# Altium footprint library MDBU014A.PcbLib: 52 footprints (part 2 of 4)
Each footprint in its own frame and in the unit in brackets; x right, y up, seen from the top. Pads: shape width x height; smd on the part's side, far side on the other; paste and mask are expansions set on the pad; w line width, h text height; cw(c..) or ccw(c..) is an arc to the next point about the centre after c.
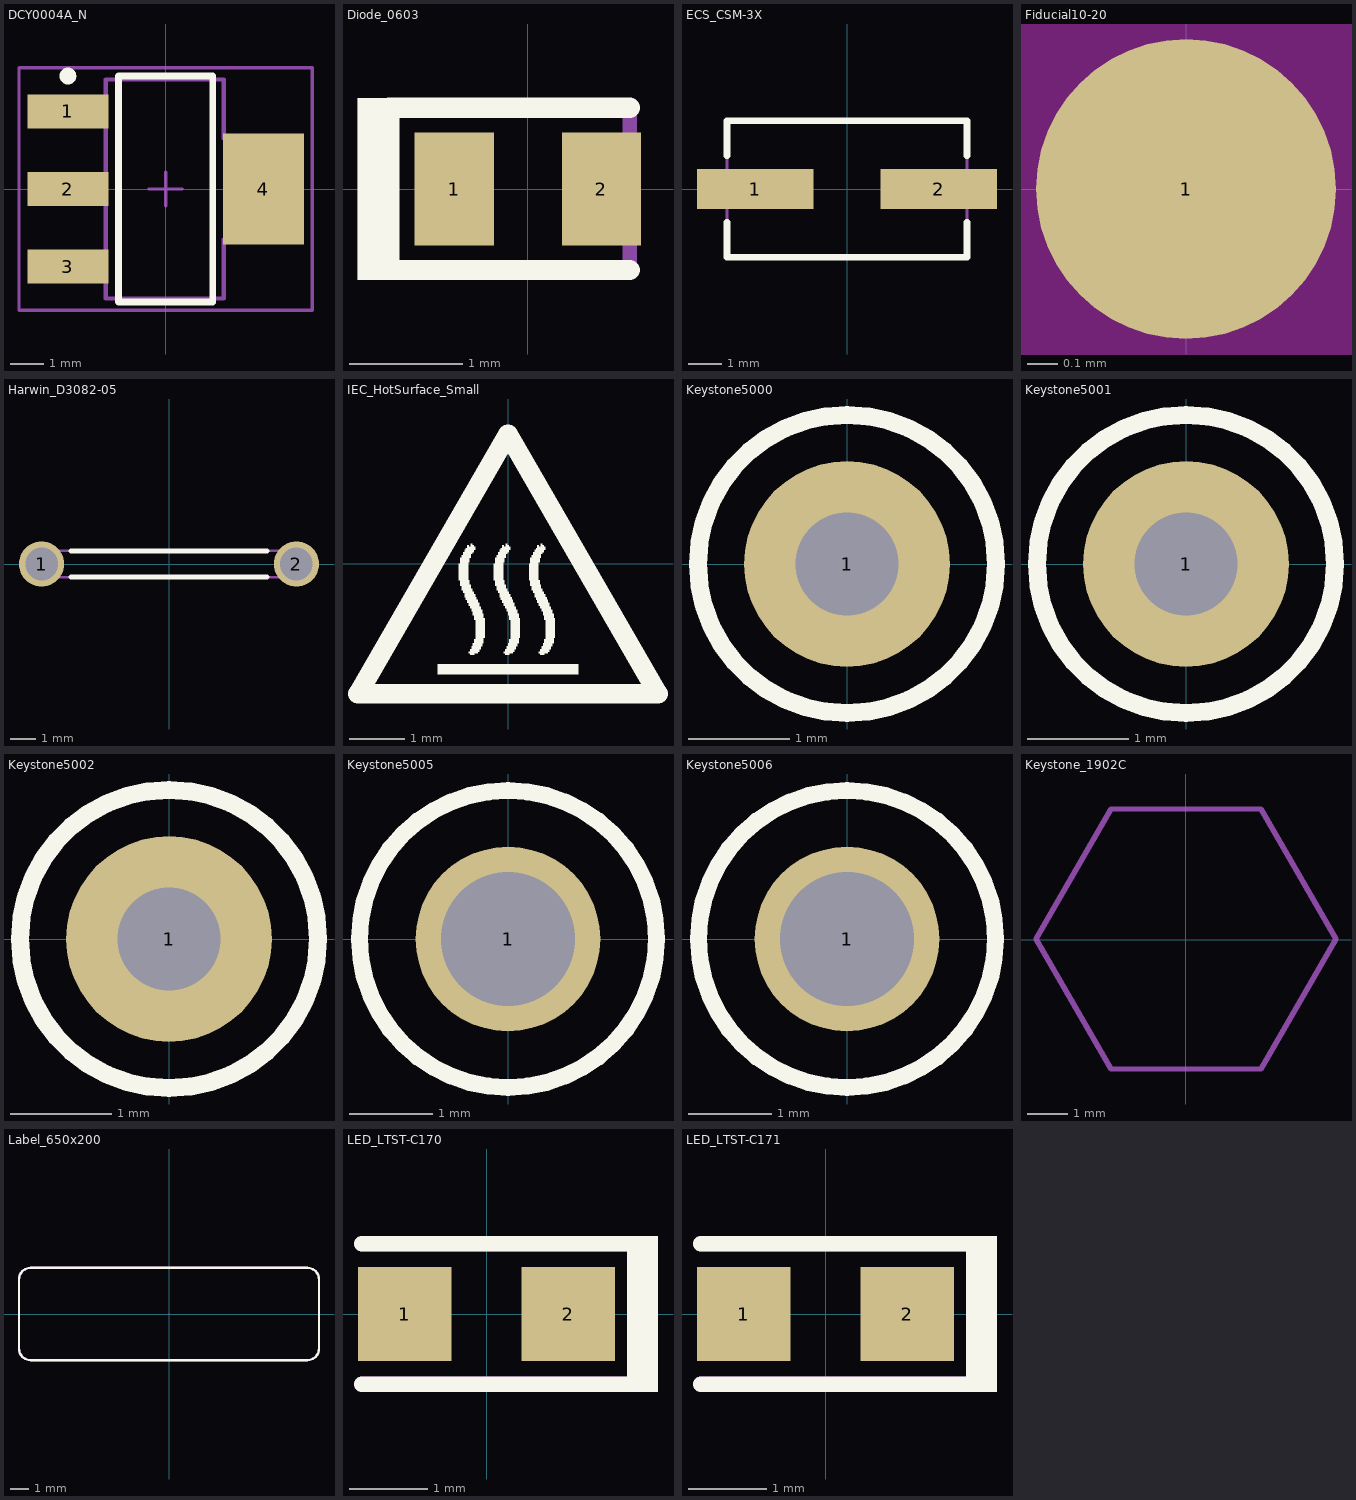
[diagram p1: the footprints below, top view; thin cyan lines are the x and y axes]

## DCY0004A_N [mm]
pads (4):
  rect 2.4x1 smd: 1(-2.9,2.3) 2(-2.9,0) 3(-2.9,-2.3)
  rect 2.4x3.3 smd: 4(2.9,0)
Top Overlay:
  circle w0.25: c-2.9,3.35 r0.125
  lines w0.2: -1.4,-3.35 1.4,-3.35 1.4,3.35 -1.4,3.35 -1.4,-3.35
Mechanical 5:
  lines w0.127: -3.525,-2.65 -2.797,-2.65 -2.612,-2.65 -2.374,-2.65 -2.003,-2.65 -1.775,-2.65 -1.775,-3.25 1.725,-3.25 1.725,-1.5 1.953,-1.5 2.324,-1.5 2.562,-1.5 2.747,-1.5 3.475,-1.5 3.475,1.5 2.747,1.5 2.562,1.5 2.324,1.5 1.953,1.5 1.725,1.5 1.725,3.25 -1.775,3.25 -1.775,2.65 -2.003,2.65 -2.374,2.65 -2.612,2.65 -2.797,2.65 -3.525,2.65 -3.525,1.95 -2.797,1.95 -2.612,1.95 -2.374,1.95 -2.003,1.95 -1.775,1.95 -1.775,0.35 -2.003,0.35 -2.374,0.35 -2.612,0.35 -2.797,0.35 -3.525,0.35 -3.525,-0.35 -2.797,-0.35 -2.612,-0.35 -2.374,-0.35 -2.003,-0.35 -1.775,-0.35 -1.775,-1.95 -2.003,-1.95 -2.374,-1.95 -2.612,-1.95 -2.797,-1.95 -3.525,-1.95 -3.525,-2.65
  text ".Designator" at -0.425,2.5 h1.02
Mechanical 15:
  lines w0.1: -0.5,0 0.5,0 ; 0,-0.5 0,0.5 ; -4.35,-3.6 4.35,-3.6 4.35,3.6 -4.35,3.6 -4.35,-3.6
3D body "SOT-223.stp": height 1.62, standoff -0.03, extent -3.5,-3.25 3.5,3.25

## Diode_0603 [mm]
pads (2):
  rect 0.7x1 smd: 1(-0.65,0) 2(0.65,0)
Top Overlay:
  region: -1.5,0.8 -1.5,-0.8 -1.2,-0.8 -1.2,0.8
  lines w0.178: 0.9,-0.716 -1.224,-0.716 -1.224,0.718 0.9,0.718
Mechanical 5:
  region: -1.5,0.8 -1.5,-0.8 -1.2,-0.8 -1.2,0.8
  lines w0.127: -1.224,-0.716 -1.224,0.718 0.9,0.718 0.9,-0.716 -1.224,-0.716
  text ".Designator" at -1.025,-0.2 h0.51
3D body "Diode_0603.stp": height 0.85, standoff 0, extent -0.9,-0.5 0.9,0.5

## ECS_CSM-3X [mm]
pads (2):
  rect 3.5x1.2 smd: 1(-2.75,0) 2(2.75,0)
Top Overlay:
  lines w0.2: -3.6,-1 -3.6,-2.05 3.6,-2.05 3.6,-1 ; -3.6,1 -3.6,2.05 3.6,2.05 3.6,1
Mechanical 5:
  lines w0.1: -1.3,-2.05 1.3,-2.05 ; -3.6,-2.05 -3.6,2.05 3.6,2.05 3.6,-2.05 -3.6,-2.05
  text ".Designator" at -1.9,-0.5 h0.76
3D body: height 0.5, standoff 0, extent -3.65,-2.1 3.65,2.1
3D body: height 0.8, standoff 0.5, extent -3.351,-2.051 3.351,2.051
3D body: height 2.3, standoff 0.8, extent -2.851,-1.751 2.851,1.751

## FCC_disclaimer [mm]
Bottom Overlay:
  text "For evaluation only; not FCC approved for resale." at 18.415,-0.381 h1.52

## Fiducial10-20 [mm]
pads (1):
  round 1 smd paste-0.5 mask+0.5: 1(0,0)
Top Layer keep-out:
  circle w1.178: c0,0 r0.5

## Harwin_D3082-05 [mm]
pads (2):
  round 1.8 hole 1.3: 1(-5.08,0) 2(5.08,0)
Top Overlay:
  lines w0.2: -3.9,-0.525 3.9,-0.525 ; -3.9,0.525 3.9,0.525
Mechanical 5:
  lines w0.1: -5.08,-0.525 cw(c-5.08,0) -5.08,0.525 5.08,0.525 cw(c5.08,0) 5.08,-0.525 -5.08,-0.525
  text ".Designator" at -1.125,-0.2 h0.5
3D body: height 6.63, standoff 5.58, extent -5.08,-0.524 5.08,0.524
3D body: height 6.63, standoff 5.58, extent 4.56,-0.523 5.605,0.523
3D body: height 6.63, standoff 5.58, extent -5.6,-0.523 -4.555,0.523
3D body: height 6.1, standoff -2.5, extent 4.559,-0.524 5.605,0.524
3D body: height 6.1, standoff -2.5, extent -5.601,-0.524 -4.555,0.524

## IEC_HotSurface_Small [mm]
Top Overlay:
  drawing of 10 lines, arcs and shapes, not listed

## Keystone5000 [mil]
pads (1):
  round 80 hole 40: 1(0,0)
Top Overlay:
  circle w7: c0,0 r58
Mechanical 5:
  circle w5: c0,0 r58.31
  text ".Designator" at -45,-10 h30
3D body "Keystone_5000.stp": height 181.97, standoff -118.11, extent -49,-49 49.04,49.24

## Keystone5001 [mil]
pads (1):
  round 80 hole 40: 1(0,0)
Top Overlay:
  circle w7: c0,0 r58
Mechanical 5:
  circle w5: c0,0 r58.31
  text ".Designator" at -45,-10 h30
3D body "Keystone_5001.stp": height 181.97, standoff -118.11, extent -49,-49 49.04,49.24

## Keystone5002 [mil]
pads (1):
  round 80 hole 40: 1(0,0)
Top Overlay:
  circle w7: c0,0 r58
Mechanical 5:
  circle w5: c0,0 r58.31
  text ".Designator" at -45,-10 h30
3D body "Keystone_5002.stp": height 181.97, standoff -118.11, extent -49,-49 49.04,49.23

## Keystone5005 [mil]
pads (1):
  round 87 hole 63: 1(0,0)
Top Overlay:
  circle w7.99: c0,0 r70
Mechanical 5:
  circle w5: c0,0 r70.71
  text ".Designator" at -55,-15 h30
3D body "Keystone_5005.stp": height 225.2, standoff -129.92, extent -63,-63 62.49,62.74

## Keystone5006 [mil]
pads (1):
  round 87 hole 63: 1(0,0)
Top Overlay:
  circle w7.99: c0,0 r70
Mechanical 5:
  circle w5: c0,0 r70.71
  text ".Designator" at -55,-15 h30
3D body "Keystone_5006.stp": height 225.2, standoff -129.92, extent -63,-63 62.49,62.74

## Keystone_1902C [mm]
Mechanical 5:
  lines w0.127: -3.69,0.012 -1.843,3.212 1.852,3.212 3.7,0.012 1.852,-3.188 -1.843,-3.188 -3.69,0.012
  text ".Designator" at -1.524,-0.508 h1.02
3D body "Keystone_1902C.stp": height 12.73, standoff 0.03, extent -3.682,-3.2 3.708,3.2

## Label_650x200 [mil]
pads (1):
  round 1 on Mech13: 0(0,0)
Top Overlay:
  lines w5: -325,-75 ccw(c-300,-75) -300,-100 300,-100 ccw(c300,-75) 325,-75 325,75 ccw(c300,75) 300,100 -300,100 ccw(c-300,75) -325,75 -325,-75
Mechanical 5:
  lines w5: -325,-75 ccw(c-300,-75) -300,-100 300,-100 ccw(c300,-75) 325,-75 325,75 ccw(c300,75) 300,100 -300,100 ccw(c-300,75) -325,75 -325,-75
  text ".Designator" at -60,-20 h40
3D body: height 1, standoff 0, extent -325.02,-100.02 325.02,100.02

## LED_LTST-C170 [mm]
pads (2):
  rect 1.2x1.2 smd: 1(-1.05,0) 2(1.05,0)
Top Overlay:
  rectangle: 1.8,-1 2.2,1
  lines w0.2: -1.6,-0.9 2.1,-0.9 ; -1.6,0.9 2.1,0.9
Mechanical 5:
  rectangle: 1.8,-1 2.2,1
  lines w0.2: -1.6,-0.9 2.1,-0.9 ; -1.6,0.9 2.1,0.9
  text ".Designator" at -1.4,-0.4 h0.76
3D body: height 0.5, standoff 0, extent -1.05,-0.675 1.05,0.675
3D body: height 1.1, standoff 0.5, extent -0.699,-0.624 0.699,0.624

## LED_LTST-C171 [mm]
pads (2):
  rect 1.2x1.2 smd: 1(-1.05,0) 2(1.05,0)
Top Overlay:
  rectangle: 1.8,-1 2.2,1
  lines w0.2: -1.6,-0.9 2.1,-0.9 ; -1.6,0.9 2.1,0.9
Mechanical 5:
  rectangle: 1.8,-1 2.2,1
  lines w0.2: -1.6,-0.9 2.1,-0.9 ; -1.6,0.9 2.1,0.9
  text ".Designator" at -1.4,-0.4 h0.76
3D body: height 0.3, standoff 0, extent -1.05,-0.675 1.05,0.675
3D body: height 0.8, standoff 0.3, extent -0.699,-0.624 0.699,0.624